# EAGLE library part MPU6050 (library CameraTags)
MPU6050 Gyro/Accelerometer Breakout
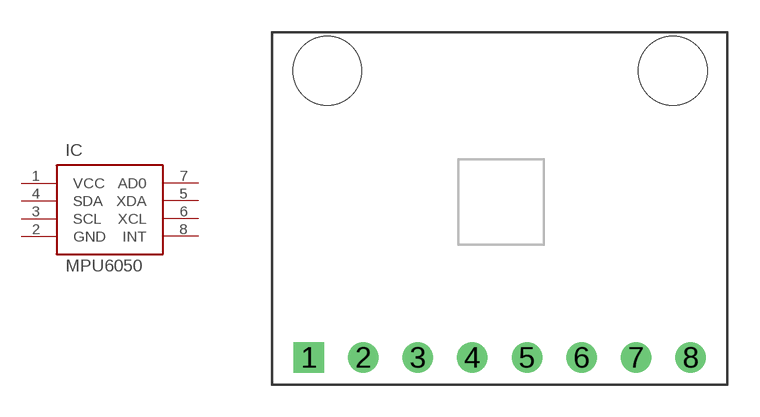
[diagram p19: symbol with the pads of MPU6050; footprint MPU6050]

Designator prefix IC

## MPU6050  [MPU6050]
1  VCC
2  GND
3  SCL
4  SDA
5  XDA
6  XCL
7  AD0
8  INT

## Footprint MPU6050 (pad centres in mm)
MPU6050 Gyro/Accelerometer Breakout
drill 0.8 pad 1.422 square: 1 -8.96,-7.23
drill 0.8 pad 1.422: 2 -6.42,-7.23; 3 -3.88,-7.23; 4 -1.34,-7.23; 5 1.2,-7.23; 6 3.74,-7.23; 7 6.28,-7.23; 8 8.82,-7.23
hole 3.2 at -8.1,6.1
hole 3.2 at 8,6.1